# EAGLE library part SWITCH_DIP_03 (library sj_standart)
3-bit DIP Switch
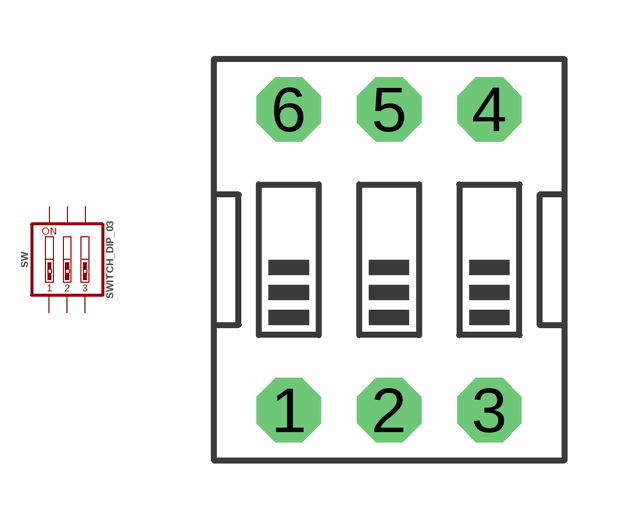
[diagram p0: symbol with the pads of SWITCH_DIP_03; footprint SWITCH_DIP_03]

Designator prefix SW

## SWITCH_DIP_03  [SWITCH_DIP_03]
1  1  pas
2  2  pas
3  3  pas
4  4  pas
5  5  pas
6  6  pas

## Footprint SWITCH_DIP_03 (pad centres in mm)
3-bit DIP Switch Package
drill 0.813 pad 1.626 octagon: 1 -2.54,-3.81; 2 0,-3.81; 3 2.54,-3.81; 4 2.54,3.81; 5 0,3.81; 6 -2.54,3.81